# Altium integrated library TI Power Management Special Function.IntLib: 97 symbols (part 3 of 7)
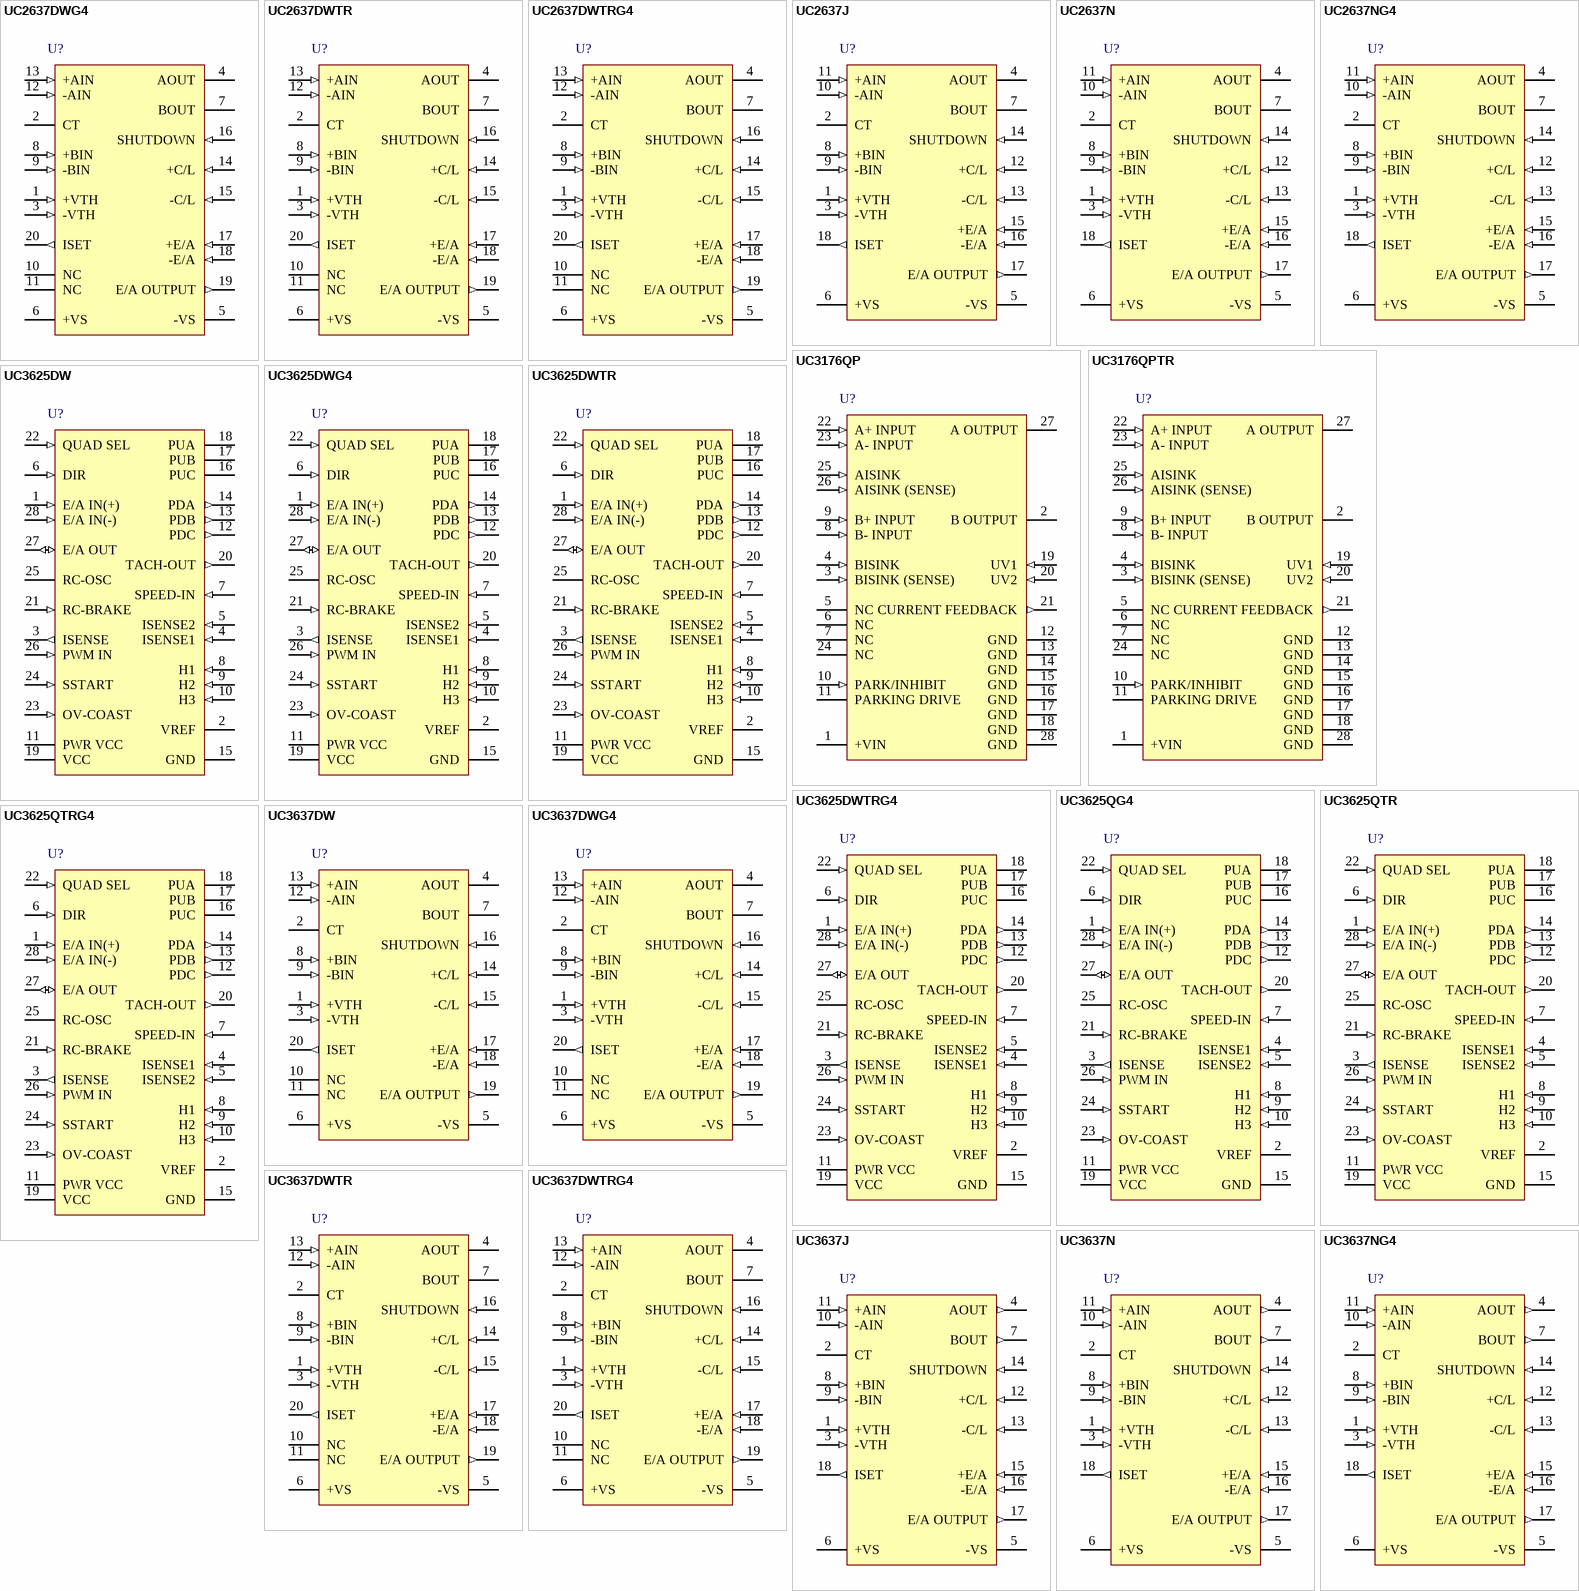
[diagram p5: symbols UC2637DWG4 to UC3637NG4]

## UC3625DW
designator U?
Brushless DC Motor Controller, 10 to 18 V Operating Supply, 0 to 70 degC, 28-pin SOIC (DW), Green (RoHS & no Sb/Br); Manufacturer: Texas Instruments; PartNumber: UC3625DW; Brushless DC Motor Control: TRUE; Operating Supply Current(mA): 14.5; Operating Supply(Max)(V): 18; Operating Supply(Min)(V): 10; Peak Output Current(A): 0.5; SubFamily: Motion/Motor Control; DatasheetVersion: SLUS353B; PackageVersion: revG, Jan-2011; PackageReference: DW28; PackageDescription: 28-Pin Plastic Small Outline Integrated Circuit, 17.9 x 7.5 mm, Pitch 1.27 mm Pitch; Supplier 1: Digi-Key; Supplier Part Number 1: 296-11235-5-ND; Supplier 2: Farnell; Supplier Part Number 2: 1461193; Supplier 3: Newark; Supplier Part Number 3: 62M0956; Supplier 4: Newark; Supplier Part Number 4: 01C2081; Supplier 5: Mouser; Supplier Part Number 5: 595-UC3625DW; Current-Limited: TRUE; Diff Curr Sense Amp: TRUE; Eco-Plan: Green (RoHS & no Sb/Br); Switching Control: TRUE; Tachometer: TRUE; Mounting Technology: Surface Mount; Code_JEDEC: MS-013-AE; ComponentLink1Description: Datasheet; ComponentLink1URL: http://www.ti.com/general/docs/lit/getliterature.tsp?genericPartNumber=UC3625&fileType=pdf
footprint DW28_N (SOIC, 28-Leads, Body 17.9x7.5mm, Pitch 1.27mm, IPC Medium Density)
footprint DW28_L (SOIC, 28-Leads, Body 17.9x7.5mm, Pitch 1.27mm, IPC High Density)
footprint DW28_M (SOIC, 28-Leads, Body 17.9x7.5mm, Pitch 1.27mm, IPC Low Density)
pins: 1 E/A IN(+) (in) "E/A IN(+) and E/A IN(-) are not internally committed to allow for a wide variety of uses. They can be connected to the ISENSE, to TACH-OUT through a filter, to an external command voltage, to a D/A converter for computer (See Datasheet)", 2 VREF (power) "This pin provides regulated 5 V for driving Hall-effect devices and speed controlcircuitry. VREF reachs 5 V before VCC enables, ensuring that Hall-effect devicespowered from VREF becomes active before the UC3625 drives any (See Datasheet)", 3 ISENSE (out) "The current sense amplifier has a fixed gain of approximately two. It also has a built-in level shift of approximately 2.5 V. The signal appearing on ISENSE is: ISENSE = 2.5 V + (2 x ABS ( ISENSE1 - ISENSE2) ) ISENSE1 and (See Datasheet)", 4 ISENSE1 (in) "The current sense amplifier has a fixed gain of approximately two. It also has a built-in level shift of approximately 2.5 V. The signal appearing on ISENSE is: ISENSE = 2.5 V + (2 x ABS ( ISENSE1 - ISENSE2) ) ISENSE1 and (See Datasheet)", 5 ISENSE2 (in) "The current sense amplifier has a fixed gain of approximately two. It also has a built-in level shift of approximately 2.5 V. The signal appearing on ISENSE is: ISENSE = 2.5 V + (2 x ABS ( ISENSE1 - ISENSE2) ) ISENSE1 and (See Datasheet)", 6 DIR (in) "The position decoder logic translates the Hall signals and the DIR signal to the correct driver signals (PUs and PDs). To prevent output stage damage,the signal on DIR is first loaded into a direction latch, then shifted (See Datasheet)", 7 SPEED-IN (in) "The position decoder logic translates the Hall signals and the DIR signal to the correct driver signals (PUs and PDs). To prevent output stage damage,the signal on DIR is first loaded into a direction latch, then shifted (See Datasheet)", 8 H1 (in) "The three shaft position sensor inputs consist of hysteresis comparators with input pull-up resistors. Logic thresholds meet TTL specifications and can be driven by 5-V CMOS, 12-V CMOS, NMOS, or open-collectors. Connect (See Datasheet)", 9 H2 (in) "The three shaft position sensor inputs consist of hysteresis comparators with input pull-up resistors. Logic thresholds meet TTL specifications and can be driven by 5-V CMOS, 12-V CMOS, NMOS, or open-collectors. Connect (See Datasheet)", 10 H3 (in) "The three shaft position sensor inputs consist of hysteresis comparators with input pull-up resistors. Logic thresholds meet TTL specifications and can be driven by 5-V CMOS, 12-V CMOS, NMOS, or open-collectors. Connect (See Datasheet)", 11 PWR VCC (power) "This supply pin carries the current sourced by the PD outputs. When connecting PD outputs directly to the bases of power Darlingtons, the PWR VCC pin can be current limited with a resistor.Darlington outputs can also be (See Datasheet)", 12 PDC (out) "These outputs can drive the gates of N-channel power MOSFETs directly or they can drive the bases of power Darlingtons if some form of current limiting is used. They are meant to drive low-side power devices in high-current (See Datasheet)", 13 PDB (out) "These outputs can drive the gates of N-channel power MOSFETs directly or they can drive the bases of power Darlingtons if some form of current limiting is used. They are meant to drive low-side power devices in high-current (See Datasheet)", 14 PDA (out) "These outputs can drive the gates of N-channel power MOSFETs directly or they can drive the bases of power Darlingtons if some form of current limiting is used. They are meant to drive low-side power devices in high-current (See Datasheet)", 15 GND (power) "All thresholds and outputs are referred to the GND pin except for the PD and PU outputs.", 16 PUC (oc) "These outputs are open-collector, high-voltage drivers that are meant to drive high-side power devices in high-current output stages.These are active low outputs, meaning that these outputs pull low to command a high-side (See Datasheet)", 17 PUB (oc) "These outputs are open-collector, high-voltage drivers that are meant to drive high-side power devices in high-current output stages.These are active low outputs, meaning that these outputs pull low to command a high-side (See Datasheet)", 18 PUA (oc) "These outputs are open-collector, high-voltage drivers that are meant to drive high-side power devices in high-current output stages.These are active low outputs, meaning that these outputs pull low to command a high-side (See Datasheet)", 19 VCC (power) "This device operates with supplies between 10 V and 18 V. Under-voltage lockout keeps all outputs off below 7.5 V, insuring that the output transistors never turn on until full drive capability is available. Bypass VCC to (See Datasheet)", 20 TACH-OUT (out) "Any change in the H1, H2, or H3 inputs loads data from these inputs into the position sensor latches. At the same time data is loaded, a fixed-width 5-V pulse is triggered on TACH-OUT. The average value of the voltage on (See Datasheet)", 21 RC-BRAKE (in) "Each time the TACH-OUT pulses, the capacitor tied to RC-BRAKE discharges from approximately 3.33 V down to 1.67 V through a resistor. The tachometer pulse width is approximately T = 0.67 RT CT, where RT and CT are a resistor (See Datasheet)", 22 QUAD SEL (in) "The device can chop power devices in either of two modes, referred to as "two-quadrant" (Quad Sellow) and "four quadrant" (Quad Sel high). When two-quadrant chopping, the pull-down power devices are chopped by the output of (See Datasheet)", 23 OV-COAST (in) "This input can be used as an over-voltage shut-down input,as a coast input, or both .This input can be driven by TTL,5-B CMOS,or 12-V CMOS.", 24 SSTART (in) "Any time that VCC drops below threshold or the sensed current exceeds the over-current threshold, the soft-start latch is set. When set, it turns on a transistor that pulls down on SSTART. Normally, a capacitor is connected (See Datasheet)", 25 RC-OSC "The UC3625 can regulate motor current using fixed-frequency pulse width modulation (PWM). The RC-OSC pin sets oscillator frequency by means of timing resistor ROSC from the RC-OSC pin to VREF and capacitor COSC from RC-OSC (See Datasheet)", 26 PWM IN (in) "E/A IN(+) and E/A IN(-) are not internally committed to allow for a wide variety of uses. They can be connected to the ISENSE, to TACH-OUT through a filter, to an external command voltage, to a D/A converter for computer (See Datasheet)", 27 E/A OUT (io) "E/A IN(+) and E/A IN(-) are not internally committed to allow for a wide variety of uses. They can be connected to the ISENSE, to TACH-OUT through a filter, to an external command voltage, to a D/A converter for computer (See Datasheet)", 28 E/A IN(-) (in) "E/A IN(+) and E/A IN(-) are not internally committed to allow for a wide variety of uses. They can be connected to the ISENSE, to TACH-OUT through a filter, to an external command voltage, to a D/A converter for computer (See Datasheet)"

## UC3625DWG4
designator U?
Brushless DC Motor Controller, 10 to 18 V Operating Supply, 0 to 70 degC, 28-pin SOIC (DW), Green (RoHS & no Sb/Br); Manufacturer: Texas Instruments; PartNumber: UC3625DWG4; Brushless DC Motor Control: TRUE; Operating Supply Current(mA): 14.5; Operating Supply(Max)(V): 18; Operating Supply(Min)(V): 10; Peak Output Current(A): 0.5; SubFamily: Motion/Motor Control; DatasheetVersion: SLUS353B; PackageVersion: revG, Jan-2011; PackageReference: DW28; PackageDescription: 28-Pin Plastic Small Outline Integrated Circuit, 17.9 x 7.5 mm, Pitch 1.27 mm Pitch; Supplier 1: Digi-Key; Supplier Part Number 1: UC3625DWG4-ND; Supplier 2: Newark; Supplier Part Number 2: 73K9699; Supplier 3: Mouser; Supplier Part Number 3: 595-UC3625DWG4; Current-Limited: TRUE; Diff Curr Sense Amp: TRUE; Eco-Plan: Green (RoHS & no Sb/Br); Switching Control: TRUE; Tachometer: TRUE; Mounting Technology: Surface Mount; Code_JEDEC: MS-013-AE; ComponentLink1Description: Datasheet; ComponentLink1URL: http://www.ti.com/general/docs/lit/getliterature.tsp?genericPartNumber=UC3625&fileType=pdf
footprint DW28_N (SOIC, 28-Leads, Body 17.9x7.5mm, Pitch 1.27mm, IPC Medium Density)
footprint DW28_L (SOIC, 28-Leads, Body 17.9x7.5mm, Pitch 1.27mm, IPC High Density)
footprint DW28_M (SOIC, 28-Leads, Body 17.9x7.5mm, Pitch 1.27mm, IPC Low Density)
pins: 1 E/A IN(+) (in) "E/A IN(+) and E/A IN(-) are not internally committed to allow for a wide variety of uses. They can be connected to the ISENSE, to TACH-OUT through a filter, to an external command voltage, to a D/A converter for computer (See Datasheet)", 2 VREF (power) "This pin provides regulated 5 V for driving Hall-effect devices and speed controlcircuitry. VREF reachs 5 V before VCC enables, ensuring that Hall-effect devicespowered from VREF becomes active before the UC3625 drives any (See Datasheet)", 3 ISENSE (out) "The current sense amplifier has a fixed gain of approximately two. It also has a built-in level shift of approximately 2.5 V. The signal appearing on ISENSE is: ISENSE = 2.5 V + (2 x ABS ( ISENSE1 - ISENSE2) ) ISENSE1 and (See Datasheet)", 4 ISENSE1 (in) "The current sense amplifier has a fixed gain of approximately two. It also has a built-in level shift of approximately 2.5 V. The signal appearing on ISENSE is: ISENSE = 2.5 V + (2 x ABS ( ISENSE1 - ISENSE2) ) ISENSE1 and (See Datasheet)", 5 ISENSE2 (in) "The current sense amplifier has a fixed gain of approximately two. It also has a built-in level shift of approximately 2.5 V. The signal appearing on ISENSE is: ISENSE = 2.5 V + (2 x ABS ( ISENSE1 - ISENSE2) ) ISENSE1 and (See Datasheet)", 6 DIR (in) "The position decoder logic translates the Hall signals and the DIR signal to the correct driver signals (PUs and PDs). To prevent output stage damage,the signal on DIR is first loaded into a direction latch, then shifted (See Datasheet)", 7 SPEED-IN (in) "The position decoder logic translates the Hall signals and the DIR signal to the correct driver signals (PUs and PDs). To prevent output stage damage,the signal on DIR is first loaded into a direction latch, then shifted (See Datasheet)", 8 H1 (in) "The three shaft position sensor inputs consist of hysteresis comparators with input pull-up resistors. Logic thresholds meet TTL specifications and can be driven by 5-V CMOS, 12-V CMOS, NMOS, or open-collectors. Connect (See Datasheet)", 9 H2 (in) "The three shaft position sensor inputs consist of hysteresis comparators with input pull-up resistors. Logic thresholds meet TTL specifications and can be driven by 5-V CMOS, 12-V CMOS, NMOS, or open-collectors. Connect (See Datasheet)", 10 H3 (in) "The three shaft position sensor inputs consist of hysteresis comparators with input pull-up resistors. Logic thresholds meet TTL specifications and can be driven by 5-V CMOS, 12-V CMOS, NMOS, or open-collectors. Connect (See Datasheet)", 11 PWR VCC (power) "This supply pin carries the current sourced by the PD outputs. When connecting PD outputs directly to the bases of power Darlingtons, the PWR VCC pin can be current limited with a resistor.Darlington outputs can also be (See Datasheet)", 12 PDC (out) "These outputs can drive the gates of N-channel power MOSFETs directly or they can drive the bases of power Darlingtons if some form of current limiting is used. They are meant to drive low-side power devices in high-current (See Datasheet)", 13 PDB (out) "These outputs can drive the gates of N-channel power MOSFETs directly or they can drive the bases of power Darlingtons if some form of current limiting is used. They are meant to drive low-side power devices in high-current (See Datasheet)", 14 PDA (out) "These outputs can drive the gates of N-channel power MOSFETs directly or they can drive the bases of power Darlingtons if some form of current limiting is used. They are meant to drive low-side power devices in high-current (See Datasheet)", 15 GND (power) "All thresholds and outputs are referred to the GND pin except for the PD and PU outputs.", 16 PUC (oc) "These outputs are open-collector, high-voltage drivers that are meant to drive high-side power devices in high-current output stages.These are active low outputs, meaning that these outputs pull low to command a high-side (See Datasheet)", 17 PUB (oc) "These outputs are open-collector, high-voltage drivers that are meant to drive high-side power devices in high-current output stages.These are active low outputs, meaning that these outputs pull low to command a high-side (See Datasheet)", 18 PUA (oc) "These outputs are open-collector, high-voltage drivers that are meant to drive high-side power devices in high-current output stages.These are active low outputs, meaning that these outputs pull low to command a high-side (See Datasheet)", 19 VCC (power) "This device operates with supplies between 10 V and 18 V. Under-voltage lockout keeps all outputs off below 7.5 V, insuring that the output transistors never turn on until full drive capability is available. Bypass VCC to (See Datasheet)", 20 TACH-OUT (out) "Any change in the H1, H2, or H3 inputs loads data from these inputs into the position sensor latches. At the same time data is loaded, a fixed-width 5-V pulse is triggered on TACH-OUT. The average value of the voltage on (See Datasheet)", 21 RC-BRAKE (in) "Each time the TACH-OUT pulses, the capacitor tied to RC-BRAKE discharges from approximately 3.33 V down to 1.67 V through a resistor. The tachometer pulse width is approximately T = 0.67 RT CT, where RT and CT are a resistor (See Datasheet)", 22 QUAD SEL (in) "The device can chop power devices in either of two modes, referred to as "two-quadrant" (Quad Sellow) and "four quadrant" (Quad Sel high). When two-quadrant chopping, the pull-down power devices are chopped by the output of (See Datasheet)", 23 OV-COAST (in) "This input can be used as an over-voltage shut-down input,as a coast input, or both .This input can be driven by TTL,5-B CMOS,or 12-V CMOS.", 24 SSTART (in) "Any time that VCC drops below threshold or the sensed current exceeds the over-current threshold, the soft-start latch is set. When set, it turns on a transistor that pulls down on SSTART. Normally, a capacitor is connected (See Datasheet)", 25 RC-OSC "The UC3625 can regulate motor current using fixed-frequency pulse width modulation (PWM). The RC-OSC pin sets oscillator frequency by means of timing resistor ROSC from the RC-OSC pin to VREF and capacitor COSC from RC-OSC (See Datasheet)", 26 PWM IN (in) "E/A IN(+) and E/A IN(-) are not internally committed to allow for a wide variety of uses. They can be connected to the ISENSE, to TACH-OUT through a filter, to an external command voltage, to a D/A converter for computer (See Datasheet)", 27 E/A OUT (io) "E/A IN(+) and E/A IN(-) are not internally committed to allow for a wide variety of uses. They can be connected to the ISENSE, to TACH-OUT through a filter, to an external command voltage, to a D/A converter for computer (See Datasheet)", 28 E/A IN(-) (in) "E/A IN(+) and E/A IN(-) are not internally committed to allow for a wide variety of uses. They can be connected to the ISENSE, to TACH-OUT through a filter, to an external command voltage, to a D/A converter for computer (See Datasheet)"

## UC3625DWTR
designator U?
Brushless DC Motor Controller, 10 to 18 V Operating Supply, 0 to 70 degC, 28-pin SOIC (DW), Green (RoHS & no Sb/Br); Manufacturer: Texas Instruments; PartNumber: UC3625DWTR; Brushless DC Motor Control: TRUE; Operating Supply Current(mA): 14.5; Operating Supply(Max)(V): 18; Operating Supply(Min)(V): 10; Peak Output Current(A): 0.5; SubFamily: Motion/Motor Control; DatasheetVersion: SLUS353B; PackageVersion: revG, Jan-2011; PackageReference: DW28; PackageDescription: 28-Pin Plastic Small Outline Integrated Circuit, 17.9 x 7.5 mm, Pitch 1.27 mm Pitch; Supplier 1: Digi-Key; Supplier Part Number 1: UC3625DWTR-ND; Supplier 2: Newark; Supplier Part Number 2: 77C3164; Supplier 3: Mouser; Supplier Part Number 3: 595-UC3625DWTR; Current-Limited: TRUE; Diff Curr Sense Amp: TRUE; Eco-Plan: Green (RoHS & no Sb/Br); Switching Control: TRUE; Tachometer: TRUE; Mounting Technology: Surface Mount; Code_JEDEC: MS-013-AE; ComponentLink1Description: Datasheet; ComponentLink1URL: http://www.ti.com/general/docs/lit/getliterature.tsp?genericPartNumber=UC3625&fileType=pdf
footprint DW28_N (SOIC, 28-Leads, Body 17.9x7.5mm, Pitch 1.27mm, IPC Medium Density)
footprint DW28_L (SOIC, 28-Leads, Body 17.9x7.5mm, Pitch 1.27mm, IPC High Density)
footprint DW28_M (SOIC, 28-Leads, Body 17.9x7.5mm, Pitch 1.27mm, IPC Low Density)
pins: 1 E/A IN(+) (in) "E/A IN(+) and E/A IN(-) are not internally committed to allow for a wide variety of uses. They can be connected to the ISENSE, to TACH-OUT through a filter, to an external command voltage, to a D/A converter for computer (See Datasheet)", 2 VREF (power) "This pin provides regulated 5 V for driving Hall-effect devices and speed controlcircuitry. VREF reachs 5 V before VCC enables, ensuring that Hall-effect devicespowered from VREF becomes active before the UC3625 drives any (See Datasheet)", 3 ISENSE (out) "The current sense amplifier has a fixed gain of approximately two. It also has a built-in level shift of approximately 2.5 V. The signal appearing on ISENSE is: ISENSE = 2.5 V + (2 x ABS ( ISENSE1 - ISENSE2) ) ISENSE1 and (See Datasheet)", 4 ISENSE1 (in) "The current sense amplifier has a fixed gain of approximately two. It also has a built-in level shift of approximately 2.5 V. The signal appearing on ISENSE is: ISENSE = 2.5 V + (2 x ABS ( ISENSE1 - ISENSE2) ) ISENSE1 and (See Datasheet)", 5 ISENSE2 (in) "The current sense amplifier has a fixed gain of approximately two. It also has a built-in level shift of approximately 2.5 V. The signal appearing on ISENSE is: ISENSE = 2.5 V + (2 x ABS ( ISENSE1 - ISENSE2) ) ISENSE1 and (See Datasheet)", 6 DIR (in) "The position decoder logic translates the Hall signals and the DIR signal to the correct driver signals (PUs and PDs). To prevent output stage damage,the signal on DIR is first loaded into a direction latch, then shifted (See Datasheet)", 7 SPEED-IN (in) "The position decoder logic translates the Hall signals and the DIR signal to the correct driver signals (PUs and PDs). To prevent output stage damage,the signal on DIR is first loaded into a direction latch, then shifted (See Datasheet)", 8 H1 (in) "The three shaft position sensor inputs consist of hysteresis comparators with input pull-up resistors. Logic thresholds meet TTL specifications and can be driven by 5-V CMOS, 12-V CMOS, NMOS, or open-collectors. Connect (See Datasheet)", 9 H2 (in) "The three shaft position sensor inputs consist of hysteresis comparators with input pull-up resistors. Logic thresholds meet TTL specifications and can be driven by 5-V CMOS, 12-V CMOS, NMOS, or open-collectors. Connect (See Datasheet)", 10 H3 (in) "The three shaft position sensor inputs consist of hysteresis comparators with input pull-up resistors. Logic thresholds meet TTL specifications and can be driven by 5-V CMOS, 12-V CMOS, NMOS, or open-collectors. Connect (See Datasheet)", 11 PWR VCC (power) "This supply pin carries the current sourced by the PD outputs. When connecting PD outputs directly to the bases of power Darlingtons, the PWR VCC pin can be current limited with a resistor.Darlington outputs can also be (See Datasheet)", 12 PDC (out) "These outputs can drive the gates of N-channel power MOSFETs directly or they can drive the bases of power Darlingtons if some form of current limiting is used. They are meant to drive low-side power devices in high-current (See Datasheet)", 13 PDB (out) "These outputs can drive the gates of N-channel power MOSFETs directly or they can drive the bases of power Darlingtons if some form of current limiting is used. They are meant to drive low-side power devices in high-current (See Datasheet)", 14 PDA (out) "These outputs can drive the gates of N-channel power MOSFETs directly or they can drive the bases of power Darlingtons if some form of current limiting is used. They are meant to drive low-side power devices in high-current (See Datasheet)", 15 GND (power) "All thresholds and outputs are referred to the GND pin except for the PD and PU outputs.", 16 PUC (oc) "These outputs are open-collector, high-voltage drivers that are meant to drive high-side power devices in high-current output stages.These are active low outputs, meaning that these outputs pull low to command a high-side (See Datasheet)", 17 PUB (oc) "These outputs are open-collector, high-voltage drivers that are meant to drive high-side power devices in high-current output stages.These are active low outputs, meaning that these outputs pull low to command a high-side (See Datasheet)", 18 PUA (oc) "These outputs are open-collector, high-voltage drivers that are meant to drive high-side power devices in high-current output stages.These are active low outputs, meaning that these outputs pull low to command a high-side (See Datasheet)", 19 VCC (power) "This device operates with supplies between 10 V and 18 V. Under-voltage lockout keeps all outputs off below 7.5 V, insuring that the output transistors never turn on until full drive capability is available. Bypass VCC to (See Datasheet)", 20 TACH-OUT (out) "Any change in the H1, H2, or H3 inputs loads data from these inputs into the position sensor latches. At the same time data is loaded, a fixed-width 5-V pulse is triggered on TACH-OUT. The average value of the voltage on (See Datasheet)", 21 RC-BRAKE (in) "Each time the TACH-OUT pulses, the capacitor tied to RC-BRAKE discharges from approximately 3.33 V down to 1.67 V through a resistor. The tachometer pulse width is approximately T = 0.67 RT CT, where RT and CT are a resistor (See Datasheet)", 22 QUAD SEL (in) "The device can chop power devices in either of two modes, referred to as "two-quadrant" (Quad Sellow) and "four quadrant" (Quad Sel high). When two-quadrant chopping, the pull-down power devices are chopped by the output of (See Datasheet)", 23 OV-COAST (in) "This input can be used as an over-voltage shut-down input,as a coast input, or both .This input can be driven by TTL,5-B CMOS,or 12-V CMOS.", 24 SSTART (in) "Any time that VCC drops below threshold or the sensed current exceeds the over-current threshold, the soft-start latch is set. When set, it turns on a transistor that pulls down on SSTART. Normally, a capacitor is connected (See Datasheet)", 25 RC-OSC "The UC3625 can regulate motor current using fixed-frequency pulse width modulation (PWM). The RC-OSC pin sets oscillator frequency by means of timing resistor ROSC from the RC-OSC pin to VREF and capacitor COSC from RC-OSC (See Datasheet)", 26 PWM IN (in) "E/A IN(+) and E/A IN(-) are not internally committed to allow for a wide variety of uses. They can be connected to the ISENSE, to TACH-OUT through a filter, to an external command voltage, to a D/A converter for computer (See Datasheet)", 27 E/A OUT (io) "E/A IN(+) and E/A IN(-) are not internally committed to allow for a wide variety of uses. They can be connected to the ISENSE, to TACH-OUT through a filter, to an external command voltage, to a D/A converter for computer (See Datasheet)", 28 E/A IN(-) (in) "E/A IN(+) and E/A IN(-) are not internally committed to allow for a wide variety of uses. They can be connected to the ISENSE, to TACH-OUT through a filter, to an external command voltage, to a D/A converter for computer (See Datasheet)"

## UC3625DWTRG4
designator U?
Brushless DC Motor Controller, 10 to 18 V Operating Supply, 0 to 70 degC, 28-pin SOIC (DW), Green (RoHS & no Sb/Br); Manufacturer: Texas Instruments; PartNumber: UC3625DWTRG4; Brushless DC Motor Control: TRUE; Operating Supply Current(mA): 14.5; Operating Supply(Max)(V): 18; Operating Supply(Min)(V): 10; Peak Output Current(A): 0.5; SubFamily: Motion/Motor Control; DatasheetVersion: SLUS353B; PackageVersion: revG, Jan-2011; PackageReference: DW28; PackageDescription: 28-Pin Plastic Small Outline Integrated Circuit, 17.9 x 7.5 mm, Pitch 1.27 mm Pitch; Supplier 1: Digi-Key; Supplier Part Number 1: UC3625DWTRG4-ND; Supplier 2: Newark; Supplier Part Number 2: 54K2309; Supplier 3: Mouser; Supplier Part Number 3: 595-UC3625DWTRG4; Current-Limited: TRUE; Diff Curr Sense Amp: TRUE; Eco-Plan: Green (RoHS & no Sb/Br); Switching Control: TRUE; Tachometer: TRUE; Mounting Technology: Surface Mount; Code_JEDEC: MS-013-AE; ComponentLink1Description: Datasheet; ComponentLink1URL: http://www.ti.com/general/docs/lit/getliterature.tsp?genericPartNumber=UC3625&fileType=pdf
footprint DW28_N (SOIC, 28-Leads, Body 17.9x7.5mm, Pitch 1.27mm, IPC Medium Density)
footprint DW28_L (SOIC, 28-Leads, Body 17.9x7.5mm, Pitch 1.27mm, IPC High Density)
footprint DW28_M (SOIC, 28-Leads, Body 17.9x7.5mm, Pitch 1.27mm, IPC Low Density)
pins: 1 E/A IN(+) (in) "E/A IN(+) and E/A IN(-) are not internally committed to allow for a wide variety of uses. They can be connected to the ISENSE, to TACH-OUT through a filter, to an external command voltage, to a D/A converter for computer (See Datasheet)", 2 VREF (power) "This pin provides regulated 5 V for driving Hall-effect devices and speed controlcircuitry. VREF reachs 5 V before VCC enables, ensuring that Hall-effect devicespowered from VREF becomes active before the UC3625 drives any (See Datasheet)", 3 ISENSE (out) "The current sense amplifier has a fixed gain of approximately two. It also has a built-in level shift of approximately 2.5 V. The signal appearing on ISENSE is: ISENSE = 2.5 V + (2 x ABS ( ISENSE1 - ISENSE2) ) ISENSE1 and (See Datasheet)", 4 ISENSE1 (in) "The current sense amplifier has a fixed gain of approximately two. It also has a built-in level shift of approximately 2.5 V. The signal appearing on ISENSE is: ISENSE = 2.5 V + (2 x ABS ( ISENSE1 - ISENSE2) ) ISENSE1 and (See Datasheet)", 5 ISENSE2 (in) "The current sense amplifier has a fixed gain of approximately two. It also has a built-in level shift of approximately 2.5 V. The signal appearing on ISENSE is: ISENSE = 2.5 V + (2 x ABS ( ISENSE1 - ISENSE2) ) ISENSE1 and (See Datasheet)", 6 DIR (in) "The position decoder logic translates the Hall signals and the DIR signal to the correct driver signals (PUs and PDs). To prevent output stage damage,the signal on DIR is first loaded into a direction latch, then shifted (See Datasheet)", 7 SPEED-IN (in) "The position decoder logic translates the Hall signals and the DIR signal to the correct driver signals (PUs and PDs). To prevent output stage damage,the signal on DIR is first loaded into a direction latch, then shifted (See Datasheet)", 8 H1 (in) "The three shaft position sensor inputs consist of hysteresis comparators with input pull-up resistors. Logic thresholds meet TTL specifications and can be driven by 5-V CMOS, 12-V CMOS, NMOS, or open-collectors. Connect (See Datasheet)", 9 H2 (in) "The three shaft position sensor inputs consist of hysteresis comparators with input pull-up resistors. Logic thresholds meet TTL specifications and can be driven by 5-V CMOS, 12-V CMOS, NMOS, or open-collectors. Connect (See Datasheet)", 10 H3 (in) "The three shaft position sensor inputs consist of hysteresis comparators with input pull-up resistors. Logic thresholds meet TTL specifications and can be driven by 5-V CMOS, 12-V CMOS, NMOS, or open-collectors. Connect (See Datasheet)", 11 PWR VCC (power) "This supply pin carries the current sourced by the PD outputs. When connecting PD outputs directly to the bases of power Darlingtons, the PWR VCC pin can be current limited with a resistor.Darlington outputs can also be (See Datasheet)", 12 PDC (out) "These outputs can drive the gates of N-channel power MOSFETs directly or they can drive the bases of power Darlingtons if some form of current limiting is used. They are meant to drive low-side power devices in high-current (See Datasheet)", 13 PDB (out) "These outputs can drive the gates of N-channel power MOSFETs directly or they can drive the bases of power Darlingtons if some form of current limiting is used. They are meant to drive low-side power devices in high-current (See Datasheet)", 14 PDA (out) "These outputs can drive the gates of N-channel power MOSFETs directly or they can drive the bases of power Darlingtons if some form of current limiting is used. They are meant to drive low-side power devices in high-current (See Datasheet)", 15 GND (power) "All thresholds and outputs are referred to the GND pin except for the PD and PU outputs.", 16 PUC (oc) "These outputs are open-collector, high-voltage drivers that are meant to drive high-side power devices in high-current output stages.These are active low outputs, meaning that these outputs pull low to command a high-side (See Datasheet)", 17 PUB (oc) "These outputs are open-collector, high-voltage drivers that are meant to drive high-side power devices in high-current output stages.These are active low outputs, meaning that these outputs pull low to command a high-side (See Datasheet)", 18 PUA (oc) "These outputs are open-collector, high-voltage drivers that are meant to drive high-side power devices in high-current output stages.These are active low outputs, meaning that these outputs pull low to command a high-side (See Datasheet)", 19 VCC (power) "This device operates with supplies between 10 V and 18 V. Under-voltage lockout keeps all outputs off below 7.5 V, insuring that the output transistors never turn on until full drive capability is available. Bypass VCC to (See Datasheet)", 20 TACH-OUT (out) "Any change in the H1, H2, or H3 inputs loads data from these inputs into the position sensor latches. At the same time data is loaded, a fixed-width 5-V pulse is triggered on TACH-OUT. The average value of the voltage on (See Datasheet)", 21 RC-BRAKE (in) "Each time the TACH-OUT pulses, the capacitor tied to RC-BRAKE discharges from approximately 3.33 V down to 1.67 V through a resistor. The tachometer pulse width is approximately T = 0.67 RT CT, where RT and CT are a resistor (See Datasheet)", 22 QUAD SEL (in) "The device can chop power devices in either of two modes, referred to as "two-quadrant" (Quad Sellow) and "four quadrant" (Quad Sel high). When two-quadrant chopping, the pull-down power devices are chopped by the output of (See Datasheet)", 23 OV-COAST (in) "This input can be used as an over-voltage shut-down input,as a coast input, or both .This input can be driven by TTL,5-B CMOS,or 12-V CMOS.", 24 SSTART (in) "Any time that VCC drops below threshold or the sensed current exceeds the over-current threshold, the soft-start latch is set. When set, it turns on a transistor that pulls down on SSTART. Normally, a capacitor is connected (See Datasheet)", 25 RC-OSC "The UC3625 can regulate motor current using fixed-frequency pulse width modulation (PWM). The RC-OSC pin sets oscillator frequency by means of timing resistor ROSC from the RC-OSC pin to VREF and capacitor COSC from RC-OSC (See Datasheet)", 26 PWM IN (in) "E/A IN(+) and E/A IN(-) are not internally committed to allow for a wide variety of uses. They can be connected to the ISENSE, to TACH-OUT through a filter, to an external command voltage, to a D/A converter for computer (See Datasheet)", 27 E/A OUT (io) "E/A IN(+) and E/A IN(-) are not internally committed to allow for a wide variety of uses. They can be connected to the ISENSE, to TACH-OUT through a filter, to an external command voltage, to a D/A converter for computer (See Datasheet)", 28 E/A IN(-) (in) "E/A IN(+) and E/A IN(-) are not internally committed to allow for a wide variety of uses. They can be connected to the ISENSE, to TACH-OUT through a filter, to an external command voltage, to a D/A converter for computer (See Datasheet)"

## UC3625QG4
designator U?
Brushless DC Motor Controller, 10 to 18 V Operating Supply, 0 to 70 degC, 28-pin PLCC (FN), Green (RoHS & no Sb/Br); Manufacturer: Texas Instruments; PartNumber: UC3625QG4; Brushless DC Motor Control: TRUE; Operating Supply Current(mA): 14.5; Operating Supply(Max)(V): 18; Operating Supply(Min)(V): 10; Peak Output Current(A): 0.5; SubFamily: Motion/Motor Control; DatasheetVersion: SLUS353B; PackageVersion: revB, Mar-1995; PackageReference: FN28; PackageDescription: 28-Pin Plastic J-Leaded Chip Carrier, 1.27 mm Pitch; Supplier 1: Digi-Key; Supplier Part Number 1: UC3625QG4-ND; Supplier 2: Newark; Supplier Part Number 2: 25R0176; Supplier 3: Mouser; Supplier Part Number 3: 595-UC3625QG4; Current-Limited: TRUE; Diff Curr Sense Amp: TRUE; Eco-Plan: Green (RoHS & no Sb/Br); Switching Control: TRUE; Tachometer: TRUE; Mounting Technology: Surface Mount; Code_JEDEC: MS-018; ComponentLink1Description: Datasheet; ComponentLink1URL: http://www.ti.com/general/docs/lit/getliterature.tsp?genericPartNumber=UC3625&fileType=pdf
footprint FN28_N (Leaded Chip Carrier, 28-Leads, Body 11.5x11.5mm, Pitch 1.27mm, IPC Medium Density)
footprint FN28_L (Leaded Chip Carrier, 28-Leads, Body 11.5x11.5mm, Pitch 1.27mm, IPC High Density)
footprint FN28_M (Leaded Chip Carrier, 28-Leads, Body 11.5x11.5mm, Pitch 1.27mm, IPC Low Density)
pins: 1 E/A IN(+) (in) "E/A IN(+) and E/A IN(-) are not internally committed to allow for a wide variety of uses. They can be connected to the ISENSE, to TACH-OUT through a filter, to an external command voltage, to a D/A converter for computer (See Datasheet)", 2 VREF (power) "This pin provides regulated 5 V for driving Hall-effect devices and speed control circuitry. VREF reachs 5 V before VCC enables, ensuring that Hall-effect devices  powered from VREF becomes active before the UC3625 drives (See Datasheet)", 3 ISENSE (out) "The current sense amplifier has a fixed gain of approximately two. It also has a built-in level shift of approximately 2.5 V. The signal appearing on ISENSE is: ISENSE = 2.5 V + (2 x ABS ( ISENSE1 - ISENSE2) ) ISENSE1 and (See Datasheet)", 4 ISENSE1 (in) "The current sense amplifier has a fixed gain of approximately two. It also has a built-in level shift of approximately 2.5 V. The signal appearing on ISENSE is: ISENSE = 2.5 V + (2 x ABS ( ISENSE1 - ISENSE2) ) ISENSE1 and (See Datasheet)", 5 ISENSE2 (in) "The current sense amplifier has a fixed gain of approximately two. It also has a built-in level shift of approximately 2.5 V. The signal appearing on ISENSE is: ISENSE = 2.5 V + (2 x ABS ( ISENSE1 - ISENSE2) ) ISENSE1 and (See Datasheet)", 6 DIR (in) "The position decoder logic translates the Hall signals and the DIR signal to the correct driver signals (PUs and PDs). To prevent output stage damage,the signal on DIR is first loaded into a direction latch, then shifted (See Datasheet)", 7 SPEED-IN (in) "The position decoder logic translates the Hall signals and the DIR signal to the correct driver signals (PUs and PDs). To prevent output stage damage,the signal on DIR is first loaded into a direction latch, then shifted (See Datasheet)", 8 H1 (in) "The three shaft position sensor inputs consist of hysteresis comparators with input pull-up resistors. Logic thresholds meet TTL specifications and can be driven by 5-V CMOS, 12-V CMOS, NMOS, or open-collectors. Connect (See Datasheet)", 9 H2 (in) "The three shaft position sensor inputs consist of hysteresis comparators with input pull-up resistors. Logic thresholds meet TTL specifications and can be driven by 5-V CMOS, 12-V CMOS, NMOS, or open-collectors. Connect (See Datasheet)", 10 H3 (in) "The three shaft position sensor inputs consist of hysteresis comparators with input pull-up resistors. Logic thresholds meet TTL specifications and can be driven by 5-V CMOS, 12-V CMOS, NMOS, or open-collectors. Connect (See Datasheet)", 11 PWR VCC (power) "This supply pin carries the current sourced by the PD outputs. When connecting PD outputs directly to the bases of power Darlingtons, the PWR VCC pin can be current limited with a resistor. Darlington outputs can also be (See Datasheet)", 12 PDC (out) "These outputs can drive the gates of N-channel power MOSFETs directly or they can drive the bases of power Darlingtons if some form of current limiting is used. They are meant to drive low-side power devices in high-current (See Datasheet)", 13 PDB (out) "These outputs can drive the gates of N-channel power MOSFETs directly or they can drive the bases of power Darlingtons if some form of current limiting is used. They are meant to drive low-side power devices in high-current (See Datasheet)", 14 PDA (out) "These outputs can drive the gates of N-channel power MOSFETs directly or they can drive the bases of power Darlingtons if some form of current limiting is used. They are meant to drive low-side power devices in high-current (See Datasheet)", 15 GND (power) "All thresholds and outputs are referred to the GND pin except for the PD and PU outputs.", 16 PUC (oc) "These outputs are open-collector, high-voltage drivers that are meant to drive high-side power devices in high-current output stages.These are active low outputs, meaning that these outputs pull low to command a high-side (See Datasheet)", 17 PUB (oc) "These outputs are open-collector, high-voltage drivers that are meant to drive high-side power devices in high-current output stages.These are active low outputs, meaning that these outputs pull low to command a high-side (See Datasheet)", 18 PUA (oc) "These outputs are open-collector, high-voltage drivers that are meant to drive high-side power devices in high-current output stages.These are active low outputs, meaning that these outputs pull low to command a high-side (See Datasheet)", 19 VCC (power) "This device operates with supplies between 10 V and 18 V. Under-voltage lockout keeps all outputs off below 7.5 V, insuring that the output transistors never turn on until full drive capability is available. Bypass VCC to (See Datasheet)", 20 TACH-OUT (out) "Any change in the H1, H2, or H3 inputs loads data from these inputs into the position sensor latches. At the same time data is loaded, a fixed-width 5-V pulse is triggered on TACH-OUT. The average value of the voltage on (See Datasheet)", 21 RC-BRAKE (in) "Each time the TACH-OUT pulses, the capacitor tied to RC-BRAKE discharges from approximately 3.33 V down to 1.67 V through a resistor. The tachometer pulse width is approximately T = 0.67 RT CT, where RT and CT are a resistor (See Datasheet)", 22 QUAD SEL (in) "The device can chop power devices in either of two modes, referred to as "two-quadrant" (Quad Sellow) and "four quadrant" (Quad Sel high). When two-quadrant chopping, the pull-down power devices are chopped by the output of (See Datasheet)", 23 OV-COAST (in) "This input can be used as an over-voltage shut-down input, as a coast input, or both. This input can be driven by TTL, 5-V CMOS, or 12-V CMOS.", 24 SSTART (in) "Any time that VCC drops below threshold or the sensed current exceeds the over-current threshold, the soft-start latch is set. When set, it turns on a transistor that pulls down on SSTART. Normally, a capacitor is connected (See Datasheet)", 25 RC-OSC "The UC3625 can regulate motor current using fixed-frequency pulse width modulation (PWM). The RC-OSC pin sets oscillator frequency by means of timing resistor ROSC from the RC-OSC pin to VREF and capacitor COSC from RC-OSC (See Datasheet)", 26 PWM IN (in) "E/A IN(+) and E/A IN(-) are not internally committed to allow for a wide variety of uses. They can be connected to the ISENSE, to TACH-OUT through a filter, to an external command voltage, to a D/A converter for computer (See Datasheet)", 27 E/A OUT (io) "E/A IN(+) and E/A IN(-) are not internally committed to allow for a wide variety of uses. They can be connected to the ISENSE, to TACH-OUT through a filter, to an external command voltage, to a D/A converter for computer (See Datasheet)", 28 E/A IN(-) (in) "E/A IN(+) and E/A IN(-) are not internally committed to allow for a wide variety of uses. They can be connected to the ISENSE, to TACH-OUT through a filter, to an external command voltage, to a D/A converter for computer (See Datasheet)"

## UC3625QTR
designator U?
Brushless DC Motor Controller, 10 to 18 V Operating Supply, 0 to 70 degC, 28-pin PLCC (FN), Green (RoHS & no Sb/Br); Manufacturer: Texas Instruments; PartNumber: UC3625QTR; Brushless DC Motor Control: TRUE; Operating Supply Current(mA): 14.5; Operating Supply(Max)(V): 18; Operating Supply(Min)(V): 10; Peak Output Current(A): 0.5; SubFamily: Motion/Motor Control; DatasheetVersion: SLUS353B; PackageVersion: revB, Mar-1995; PackageReference: FN28; PackageDescription: 28-Pin Plastic J-Leaded Chip Carrier, 1.27 mm Pitch; Supplier 1: Digi-Key; Supplier Part Number 1: UC3625QTR-ND; Supplier 2: Newark; Supplier Part Number 2: 77C3167; Supplier 3: Mouser; Supplier Part Number 3: 595-UC3625QTR; Current-Limited: TRUE; Diff Curr Sense Amp: TRUE; Eco-Plan: Green (RoHS & no Sb/Br); Switching Control: TRUE; Tachometer: TRUE; Mounting Technology: Surface Mount; Code_JEDEC: MS-018; ComponentLink1Description: Datasheet; ComponentLink1URL: http://www.ti.com/general/docs/lit/getliterature.tsp?genericPartNumber=UC3625&fileType=pdf
footprint FN28_N (Leaded Chip Carrier, 28-Leads, Body 11.5x11.5mm, Pitch 1.27mm, IPC Medium Density)
footprint FN28_L (Leaded Chip Carrier, 28-Leads, Body 11.5x11.5mm, Pitch 1.27mm, IPC High Density)
footprint FN28_M (Leaded Chip Carrier, 28-Leads, Body 11.5x11.5mm, Pitch 1.27mm, IPC Low Density)
pins: 1 E/A IN(+) (in) "E/A IN(+) and E/A IN(-) are not internally committed to allow for a wide variety of uses. They can be connected to the ISENSE, to TACH-OUT through a filter, to an external command voltage, to a D/A converter for computer (See Datasheet)", 2 VREF (power) "This pin provides regulated 5 V for driving Hall-effect devices and speed control circuitry. VREF reachs 5 V before VCC enables, ensuring that Hall-effect devices  powered from VREF becomes active before the UC3625 drives (See Datasheet)", 3 ISENSE (out) "The current sense amplifier has a fixed gain of approximately two. It also has a built-in level shift of approximately 2.5 V. The signal appearing on ISENSE is: ISENSE = 2.5 V + (2 x ABS ( ISENSE1 - ISENSE2) ) ISENSE1 and (See Datasheet)", 4 ISENSE1 (in) "The current sense amplifier has a fixed gain of approximately two. It also has a built-in level shift of approximately 2.5 V. The signal appearing on ISENSE is: ISENSE = 2.5 V + (2 x ABS ( ISENSE1 - ISENSE2) ) ISENSE1 and (See Datasheet)", 5 ISENSE2 (in) "The current sense amplifier has a fixed gain of approximately two. It also has a built-in level shift of approximately 2.5 V. The signal appearing on ISENSE is: ISENSE = 2.5 V + (2 x ABS ( ISENSE1 - ISENSE2) ) ISENSE1 and (See Datasheet)", 6 DIR (in) "The position decoder logic translates the Hall signals and the DIR signal to the correct driver signals (PUs and PDs). To prevent output stage damage,the signal on DIR is first loaded into a direction latch, then shifted (See Datasheet)", 7 SPEED-IN (in) "The position decoder logic translates the Hall signals and the DIR signal to the correct driver signals (PUs and PDs). To prevent output stage damage,the signal on DIR is first loaded into a direction latch, then shifted (See Datasheet)", 8 H1 (in) "The three shaft position sensor inputs consist of hysteresis comparators with input pull-up resistors. Logic thresholds meet TTL specifications and can be driven by 5-V CMOS, 12-V CMOS, NMOS, or open-collectors. Connect (See Datasheet)", 9 H2 (in) "The three shaft position sensor inputs consist of hysteresis comparators with input pull-up resistors. Logic thresholds meet TTL specifications and can be driven by 5-V CMOS, 12-V CMOS, NMOS, or open-collectors. Connect (See Datasheet)", 10 H3 (in) "The three shaft position sensor inputs consist of hysteresis comparators with input pull-up resistors. Logic thresholds meet TTL specifications and can be driven by 5-V CMOS, 12-V CMOS, NMOS, or open-collectors. Connect (See Datasheet)", 11 PWR VCC (power) "This supply pin carries the current sourced by the PD outputs. When connecting PD outputs directly to the bases of power Darlingtons, the PWR VCC pin can be current limited with a resistor. Darlington outputs can also be (See Datasheet)", 12 PDC (out) "These outputs can drive the gates of N-channel power MOSFETs directly or they can drive the bases of power Darlingtons if some form of current limiting is used. They are meant to drive low-side power devices in high-current (See Datasheet)", 13 PDB (out) "These outputs can drive the gates of N-channel power MOSFETs directly or they can drive the bases of power Darlingtons if some form of current limiting is used. They are meant to drive low-side power devices in high-current (See Datasheet)", 14 PDA (out) "These outputs can drive the gates of N-channel power MOSFETs directly or they can drive the bases of power Darlingtons if some form of current limiting is used. They are meant to drive low-side power devices in high-current (See Datasheet)", 15 GND (power) "All thresholds and outputs are referred to the GND pin except for the PD and PU outputs.", 16 PUC (oc) "These outputs are open-collector, high-voltage drivers that are meant to drive high-side power devices in high-current output stages.These are active low outputs, meaning that these outputs pull low to command a high-side (See Datasheet)", 17 PUB (oc) "These outputs are open-collector, high-voltage drivers that are meant to drive high-side power devices in high-current output stages.These are active low outputs, meaning that these outputs pull low to command a high-side (See Datasheet)", 18 PUA (oc) "These outputs are open-collector, high-voltage drivers that are meant to drive high-side power devices in high-current output stages.These are active low outputs, meaning that these outputs pull low to command a high-side (See Datasheet)", 19 VCC (power) "This device operates with supplies between 10 V and 18 V. Under-voltage lockout keeps all outputs off below 7.5 V, insuring that the output transistors never turn on until full drive capability is available. Bypass VCC to (See Datasheet)", 20 TACH-OUT (out) "Any change in the H1, H2, or H3 inputs loads data from these inputs into the position sensor latches. At the same time data is loaded, a fixed-width 5-V pulse is triggered on TACH-OUT. The average value of the voltage on (See Datasheet)", 21 RC-BRAKE (in) "Each time the TACH-OUT pulses, the capacitor tied to RC-BRAKE discharges from approximately 3.33 V down to 1.67 V through a resistor. The tachometer pulse width is approximately T = 0.67 RT CT, where RT and CT are a resistor (See Datasheet)", 22 QUAD SEL (in) "The device can chop power devices in either of two modes, referred to as "two-quadrant" (Quad Sellow) and "four quadrant" (Quad Sel high). When two-quadrant chopping, the pull-down power devices are chopped by the output of (See Datasheet)", 23 OV-COAST (in) "This input can be used as an over-voltage shut-down input, as a coast input, or both. This input can be driven by TTL, 5-V CMOS, or 12-V CMOS.", 24 SSTART (in) "Any time that VCC drops below threshold or the sensed current exceeds the over-current threshold, the soft-start latch is set. When set, it turns on a transistor that pulls down on SSTART. Normally, a capacitor is connected (See Datasheet)", 25 RC-OSC "The UC3625 can regulate motor current using fixed-frequency pulse width modulation (PWM). The RC-OSC pin sets oscillator frequency by means of timing resistor ROSC from the RC-OSC pin to VREF and capacitor COSC from RC-OSC (See Datasheet)", 26 PWM IN (in) "E/A IN(+) and E/A IN(-) are not internally committed to allow for a wide variety of uses. They can be connected to the ISENSE, to TACH-OUT through a filter, to an external command voltage, to a D/A converter for computer (See Datasheet)", 27 E/A OUT (io) "E/A IN(+) and E/A IN(-) are not internally committed to allow for a wide variety of uses. They can be connected to the ISENSE, to TACH-OUT through a filter, to an external command voltage, to a D/A converter for computer (See Datasheet)", 28 E/A IN(-) (in) "E/A IN(+) and E/A IN(-) are not internally committed to allow for a wide variety of uses. They can be connected to the ISENSE, to TACH-OUT through a filter, to an external command voltage, to a D/A converter for computer (See Datasheet)"